# EAGLE library part RFM75P (library Maviengin)
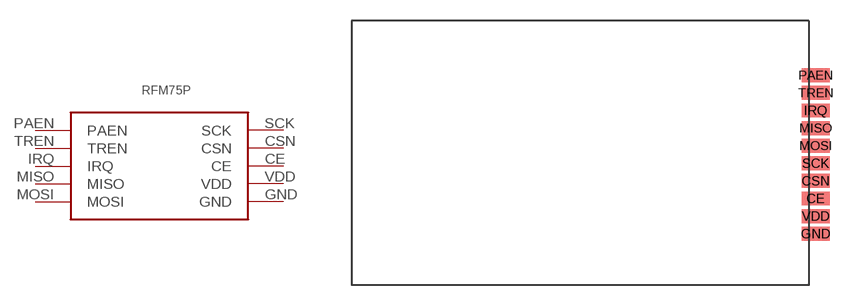
[diagram p4: symbol with the pads of RFM75P; footprint RFM75P]

Designator prefix -

## RFM75P  [RFM75P]
CE  CE
CSN  CSN
GND  GND
IRQ  IRQ
MISO  MISO
MOSI  MOSI
PAEN  PAEN
SCK  SCK
TREN  TREN
VDD  VDD

## Footprint RFM75P (pad centres in mm)
smd 2 x 1: CE -1.01,-8.89; CSN -1.01,-7.62; GND -1.01,-11.43; IRQ -1.01,-2.54; MISO -1.01,-3.81; MOSI -1.01,-5.08; PAEN -1,0; SCK -1.01,-6.35; TREN -1,-1.27; VDD -1.01,-10.16